# Altium footprint library SOD-123f.PcbLib: 1 footprints
Each footprint in its own frame and in the unit in brackets; x right, y up, seen from the top. Pads: shape width x height; smd on the part's side, far side on the other; paste and mask are expansions set on the pad; w line width, h text height; cw(c..) or ccw(c..) is an arc to the next point about the centre after c.
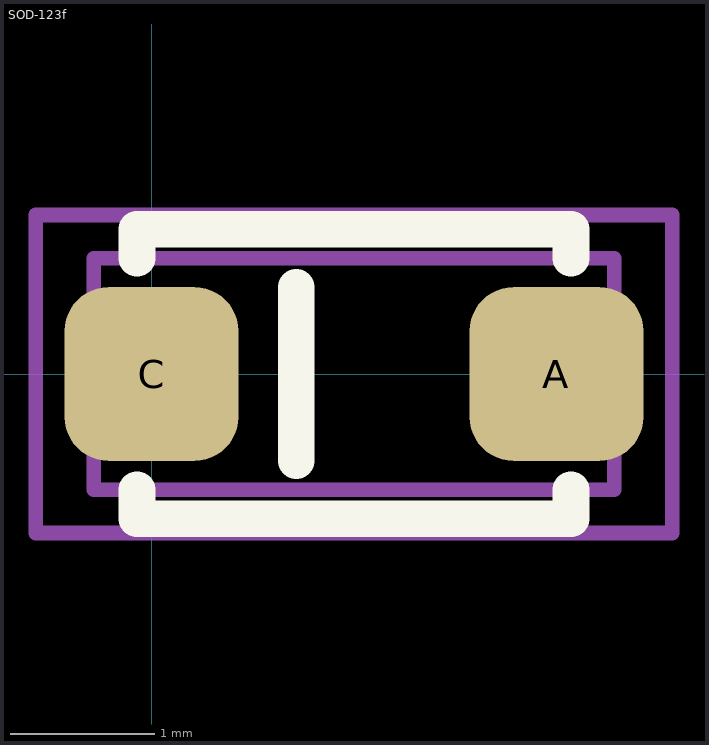
[diagram p0: the footprint, top view; thin cyan lines are the x and y axes]

## SOD-123f [mm]
pads (2):
  rrect50% 1.2x1.2 smd: A(2.8,0) C(0,0)
Top Overlay:
  lines w0.254: -0.1,-0.8 -0.1,-1 2.9,-1 2.9,-0.8 ; -0.1,0.8 -0.1,1 2.9,1 2.9,0.8 ; 1,-0.6 1,0.6
Mechanical 1:
  text ".Designator" at -0.4,-0.3 h1
Mechanical 13:
  lines w0.102: -0.4,-0.8 3.2,-0.8 3.2,0.8 -0.4,0.8 -0.4,-0.8
Mechanical 15:
  lines w0.102: -0.8,-1.1 3.6,-1.1 3.6,1.1 -0.8,1.1 -0.8,-1.1
3D body: height 0.95, standoff 0, extent -0.4,-0.825 3.2,0.825